# Altium schematic symbol library radxa_cm3i_io_board_v1.4_Library.SchLib: 162 symbols (part 2 of 2)
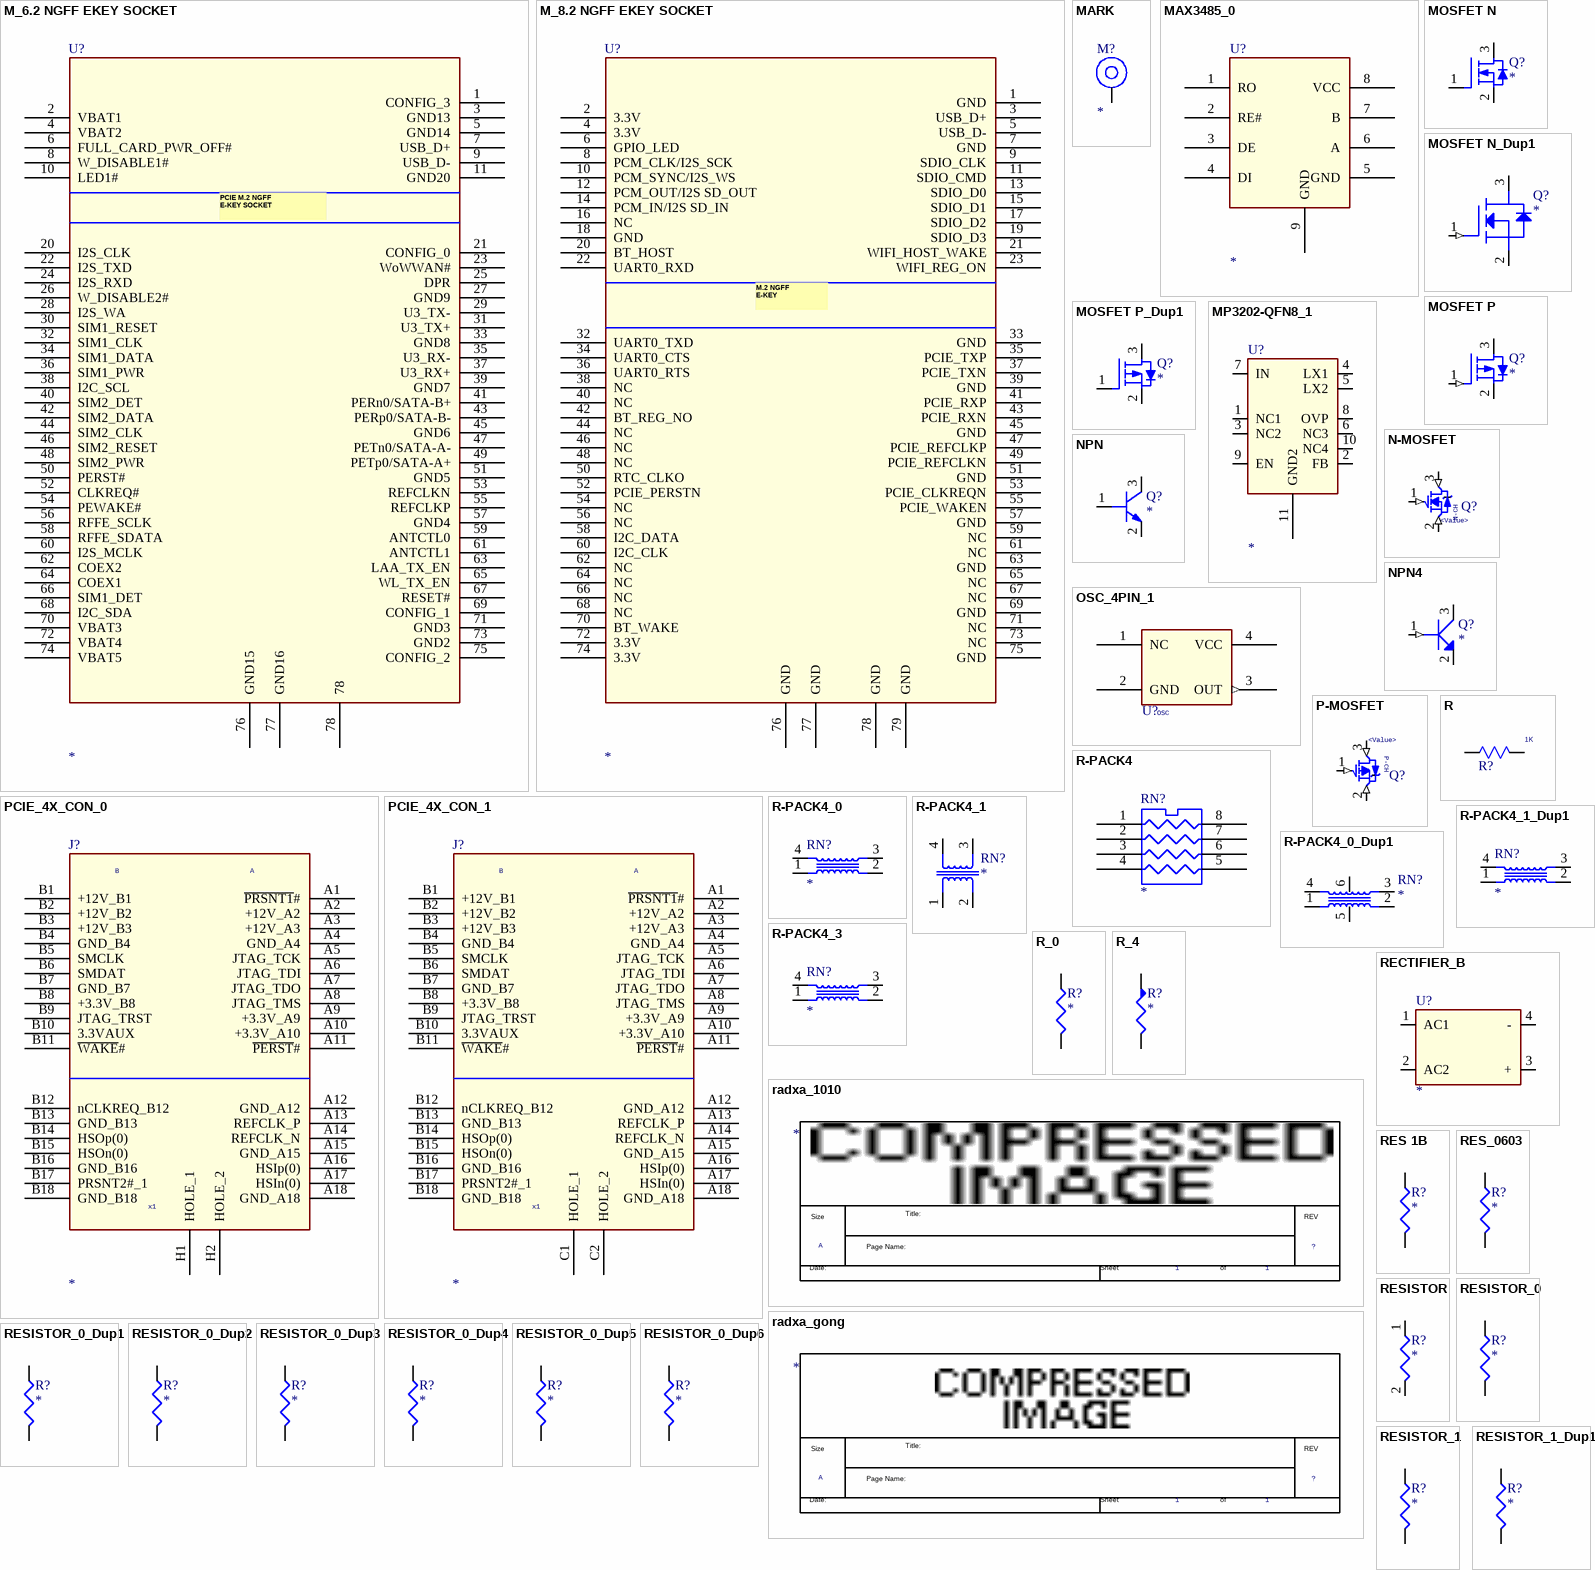
[diagram p19: symbols M_6.2 NGFF EKEY SOCKET to RESISTOR_1_Dup1]

## PCIE_4X_CON_1
designator J?
pins: A1 ~{PRSNT1}#, A2 +12V_A2, A3 +12V_A3, A4 GND_A4, A5 JTAG_TCK, A6 JTAG_TDI, A7 JTAG_TDO, A8 JTAG_TMS, A9 +3.3V_A9, A10 +3.3V_A10, A11 ~{PERST}#, A12 GND_A12, A13 REFCLK_P, A14 REFCLK_N, A15 GND_A15, A16 HSIp(0), A17 HSIn(0), A18 GND_A18, B1 +12V_B1, B2 +12V_B2, B3 +12V_B3, B4 GND_B4, B5 SMCLK, B6 SMDAT, B7 GND_B7, B8 +3.3V_B8, B9 JTAG_TRST, B10 3.3VAUX, B11 ~{WAKE}#, B12 nCLKREQ_B12, B13 GND_B13, B14 HSOp(0), B15 HSOn(0), B16 GND_B16, B17 PRSNT2#_1, B18 GND_B18, C1 HOLE_1, C2 HOLE_2
text: B; A; x1

## R
designator R?, comment 1K
PARTS: 1; LEVEL: STD; PKG_TYPE: 2; PINSWAP: (A,B); OriginalSymbolOrigin: (10,20)
pins: 1, 2

## R-PACK4
designator RN?
pins: 1 R1, 2 R2, 3 R3, 4 R4, 5 R4, 6 R3, 7 R2, 8 R1

## R-PACK4_0
designator RN?
pins: 1 R1, 2 R4, 3 R3, 4 R2

## R-PACK4_0_Dup1
designator RN?
pins: 1 R1, 2 R4, 3 R3, 4 R2, 5, 6

## R-PACK4_1
designator RN?
pins: 1 R1, 2 R4, 3 R3, 4 R2

## R-PACK4_1_Dup1
designator RN?
pins: 1 R1, 2 R4, 3 R3, 4 R2

## R-PACK4_3
designator RN?
pins: 1 R1, 2 R4, 3 R3, 4 R2

## R_0
designator R?
pins: 1, 2

## R_4
designator R?
pins: 1, 2

## radxa_1010
designator *  Page Count: 1  Page Size: A  (graphical)
Page Number: 1; RevCode: ?; Page Create Date: March  8, 1995
text: Title:; Size; REV; Page Name:; Date:; Sheet; of

## radxa_gong
designator *  Page Count: 1  Page Size: A  (graphical)
Page Number: 1; RevCode: ?; Page Create Date: March  8, 1995
text: Size; Title:; REV; Page Name:; Date:; Sheet; of

## RECTIFIER_B
designator U?
pins: 1 AC1, 2 AC2, 3 +, 4 -

## RES 1B
designator R?
pins: 1, 2

## RES_0603
designator R?
footprint R0603
pins: 1, 2

## RESISTOR
designator R?
footprint R0402
pins: 1, 2

## RESISTOR_0
designator R?
footprint R0402
pins: 1, 2

## RESISTOR_0_Dup1
designator R?
footprint R0402
pins: 1, 2

## RESISTOR_0_Dup2
designator R?
footprint R0402
pins: 1, 2

## RESISTOR_0_Dup3
designator R?
footprint R0402
pins: 1, 2

## RESISTOR_0_Dup4
designator R?
footprint R0402
pins: 1, 2

## RESISTOR_0_Dup5
designator R?
footprint R0402
pins: 1, 2

## RESISTOR_0_Dup6
designator R?
pins: 1, 2

## RESISTOR_1
designator R?
pins: 1, 2

## RESISTOR_1_Dup1
designator R?
pins: 1, 2

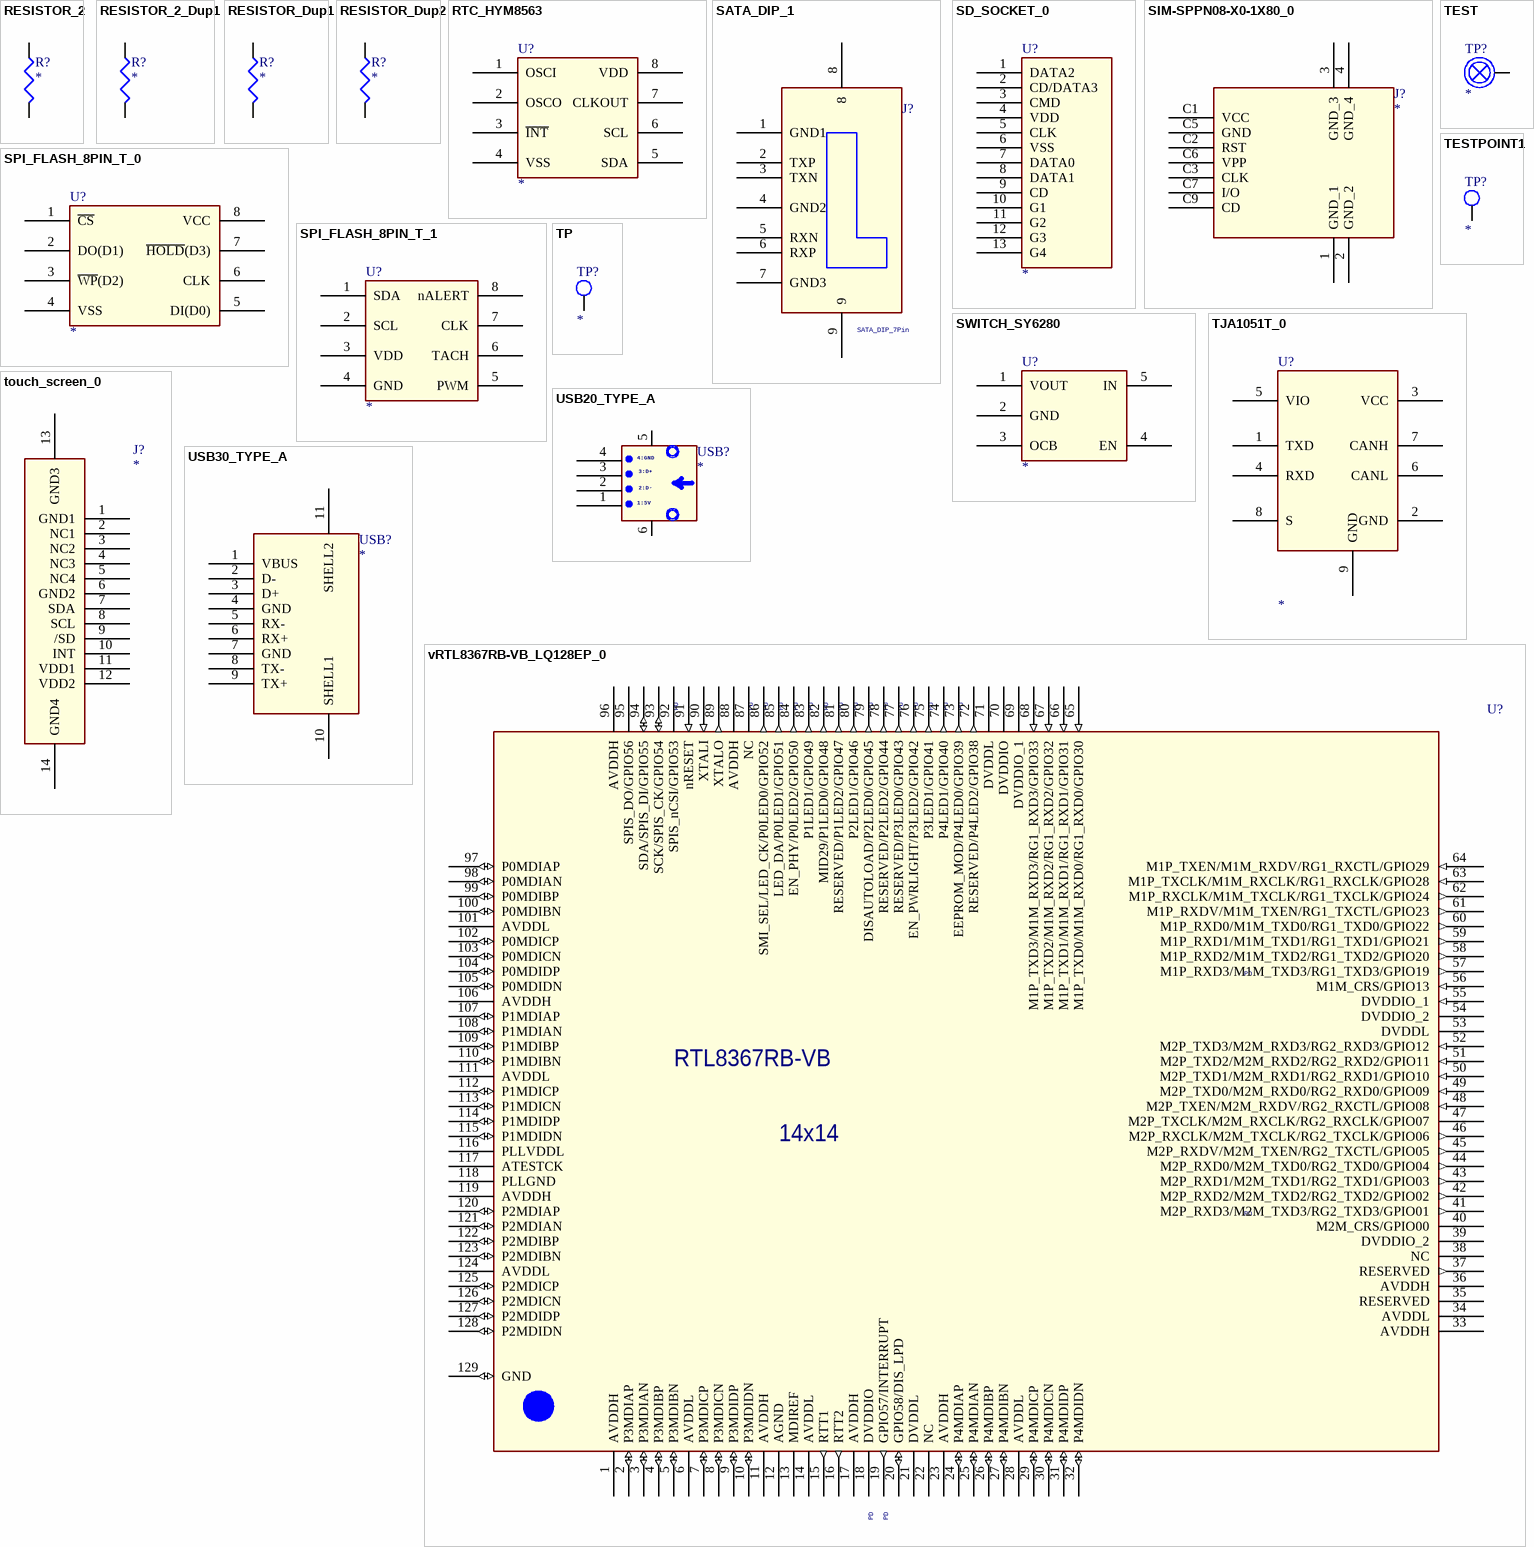
[diagram p17: symbols RESISTOR_2 to vRTL8367RB-VB_LQ128EP_0]

## RESISTOR_2
designator R?
footprint R0402
pins: 1, 2

## RESISTOR_2_Dup1
designator R?
footprint R0402
pins: 1, 2

## RESISTOR_Dup1
designator R?
pins: 1, 2

## RESISTOR_Dup2
designator R?
pins: 1, 2

## RTC_HYM8563
designator U?
pins: 1 OSCI, 2 OSCO, 3 ~{INT}, 4 VSS, 5 SDA, 6 SCL, 7 CLKOUT, 8 VDD

## SATA_DIP_1
designator J?, comment SATA_DIP_7Pin
pins: 1 GND1, 2 TXP, 3 TXN, 4 GND2, 5 RXN, 6 RXP, 7 GND3, 8, 9

## SD_SOCKET_0
designator U?
pins: 1 DATA2, 2 CD/DATA3, 3 CMD, 4 VDD, 5 CLK, 6 VSS, 7 DATA0, 8 DATA1, 9 CD, 10 G1, 11 G2, 12 G3, 13 G4

## SIM-SPPN08-X0-1X80_0
designator J?
footprint SIM-SPPN08-X0-1X80
pins: 1 GND_1, 2 GND_2, 3 GND_3, 4 GND_4, C1 VCC, C2 RST, C3 CLK, C5 GND, C6 VPP, C7 I/O, C9 CD

## SPI_FLASH_8PIN_T_0
designator U?
pins: 1 ~{CS}, 2 DO(D1), 3 ~{WP}(D2), 4 VSS, 5 DI(D0), 6 CLK, 7 ~{HOLD}(D3), 8 VCC

## SPI_FLASH_8PIN_T_1
designator U?
pins: 1 SDA, 2 SCL, 3 VDD, 4 GND, 5 PWM, 6 TACH, 7 CLK, 8 nALERT

## SWITCH_SY6280
designator U?
pins: 1 VOUT, 2 GND, 3 OCB, 4 EN, 5 IN

## TEST
designator TP?
pins: 1

## TESTPOINT1
designator TP?
footprint TEST
pins: 1

## TJA1051T_0
designator U?
pins: 1 TXD, 2 GND, 3 VCC, 4 RXD, 5 VIO, 6 CANL, 7 CANH, 8 S, 9 GND

## touch_screen_0
designator J?
pins: 1 GND1, 2 NC1, 3 NC2, 4 NC3, 5 NC4, 6 GND2, 7 SDA, 8 SCL, 9 /SD, 10 INT, 11 VDD1, 12 VDD2, 13 GND3, 14 GND4

## TP
designator TP?
footprint TEST
pins: 1

## USB20_TYPE_A
designator USB?
footprint USB20
pins: 1, 2, 3, 4, 5, 6
text: 4:GND; 3:D+; 2:D-; 1:5V

## USB30_TYPE_A
designator USB?
footprint USB30
pins: 1 VBUS (power), 2 D-, 3 D+, 4 GND (power), 5 RX-, 6 RX+, 7 GND (power), 8 TX-, 9 TX+, 10 SHELL1, 11 SHELL2

## vRTL8367RB-VB_LQ128EP_0
designator U?, comment RTL8367RB-VB_LQ128EP  (value not drawn)
pins: 1 AVDDH (power), 2 P3MDIAP (io), 3 P3MDIAN (io), 4 P3MDIBP (io), 5 P3MDIBN (io), 6 AVDDL (power), 7 P3MDICP (io), 8 P3MDICN (io), 9 P3MDIDP (io), 10 P3MDIDN (io), 11 AVDDH (power), 12 AGND (power), 13 MDIREF (oe), 14 AVDDL (power), 15 RTT1 (out), 16 RTT2 (out), 17 AVDDH (power), 18 DVDDIO (power), 19 GPIO57/INTERRUPT (out), 20 GPIO58/DIS_LPD (io), 21 DVDDL (power), 22 NC, 23 AVDDH (power), 24 P4MDIAP (io), 25 P4MDIAN (io), 26 P4MDIBP (io), 27 P4MDIBN (io), 28 AVDDL (power), 29 P4MDICP (io), 30 P4MDICN (io), 31 P4MDIDP (io), 32 P4MDIDN (io), 33 AVDDH, 34 AVDDL, 35 RESERVED, 36 AVDDH (power), 37 RESERVED (out), 38 NC, 39 DVDDIO_2 (power), 40 M2M_CRS/GPIO00 (power), 41 M2P_RXD3/M2M_TXD3/RG2_TXD3/GPIO01 (out), 42 M2P_RXD2/M2M_TXD2/RG2_TXD2/GPIO02 (out), 43 M2P_RXD1/M2M_TXD1/RG2_TXD1/GPIO03 (out), 44 M2P_RXD0/M2M_TXD0/RG2_TXD0/GPIO04 (out), 45 M2P_RXDV/M2M_TXEN/RG2_TXCTL/GPIO05 (out), 46 M2P_RXCLK/M2M_TXCLK/RG2_TXCLK/GPIO06 (out), 47 M2P_TXCLK/M2M_RXCLK/RG2_RXCLK/GPIO07, 48 M2P_TXEN/M2M_RXDV/RG2_RXCTL/GPIO08 (in), 49 M2P_TXD0/M2M_RXD0/RG2_RXD0/GPIO09 (in), 50 M2P_TXD1/M2M_RXD1/RG2_RXD1/GPIO10 (in), 51 M2P_TXD2/M2M_RXD2/RG2_RXD2/GPIO11 (in), 52 M2P_TXD3/M2M_RXD3/RG2_RXD3/GPIO12 (in), 53 DVDDL (power), 54 DVDDIO_2 (power), 55 DVDDIO_1 (in), 56 M1M_CRS/GPIO13 (in), 57 M1P_RXD3/M1M_TXD3/RG1_TXD3/GPIO19 (out), 58 M1P_RXD2/M1M_TXD2/RG1_TXD2/GPIO20 (out), 59 M1P_RXD1/M1M_TXD1/RG1_TXD1/GPIO21 (out), 60 M1P_RXD0/M1M_TXD0/RG1_TXD0/GPIO22 (out), 61 M1P_RXDV/M1M_TXEN/RG1_TXCTL/GPIO23 (out), 62 M1P_RXCLK/M1M_TXCLK/RG1_TXCLK/GPIO24 (out), 63 M1P_TXCLK/M1M_RXCLK/RG1_RXCLK/GPIO28 (in), 64 M1P_TXEN/M1M_RXDV/RG1_RXCTL/GPIO29 (in), 65 M1P_TXD0/M1M_RXD0/RG1_RXD0/GPIO30 (in), 66 M1P_TXD1/M1M_RXD1/RG1_RXD1/GPIO31 (in), 67 M1P_TXD2/M1M_RXD2/RG1_RXD2/GPIO32 (in), 68 M1P_TXD3/M1M_RXD3/RG1_RXD3/GPIO33 (in), 69 DVDDIO_1 (power), 70 DVDDIO (power), 71 DVDDL (power), 72 RESERVED/P4LED2/GPIO38 (out), 73 EEPROM_MOD/P4LED0/GPIO39 (out), 74 P4LED1/GPIO40 (out), 75 P3LED1/GPIO41 (out), 76 EN_PWRLIGHT/P3LED2/GPIO42 (out), 77 RESERVED/P3LED0/GPIO43 (out), 78 RESERVED/P2LED2/GPIO44 (out), 79 DISAUTOLOAD/P2LED0/GPIO45 (out), 80 P2LED1/GPIO46 (out), 81 RESERVED/P1LED2/GPIO47 (out), 82 MID29/P1LED0/GPIO48 (out), 83 P1LED1/GPIO49 (out), 84 EN_PHY/P0LED2/GPIO50 (out), 85 LED_DA/P0LED1/GPIO51 (out), 86 SMI_SEL/LED_CK/P0LED0/GPIO52 (out), 87 NC, 88 AVDDH (power), 89 XTALO (out), 90 XTALI (in), 91 nRESET (in), 92 SPIS_nCSI/GPIO53, 93 SCK/SPIS_CK/GPIO54 (io), 94 SDA/SPIS_DI/GPIO55 (io), 95 SPIS_DO/GPIO56, 96 AVDDH (power), 97 P0MDIAP (io), 98 P0MDIAN (io), 99 P0MDIBP (io), 100 P0MDIBN (io), 101 AVDDL (power), 102 P0MDICP (io), 103 P0MDICN (io), 104 P0MDIDP (io), 105 P0MDIDN (io), 106 AVDDH (power), 107 P1MDIAP (io), 108 P1MDIAN (io), 109 P1MDIBP (io), 110 P1MDIBN (io), 111 AVDDL (power), 112 P1MDICP (io), 113 P1MDICN (io), 114 P1MDIDP (io), 115 P1MDIDN (io), 116 PLLVDDL (power), 117 ATESTCK (power), 118 PLLGND (power), 119 AVDDH (power), 120 P2MDIAP (io), 121 P2MDIAN (io), 122 P2MDIBP (io), 123 P2MDIBN (io), 124 AVDDL (power), 125 P2MDICP (io), 126 P2MDICN (io), 127 P2MDIDP (io), 128 P2MDIDN (io), 129 GND (io)
text: PU; PD; RTL8367RB-VB; 14x14

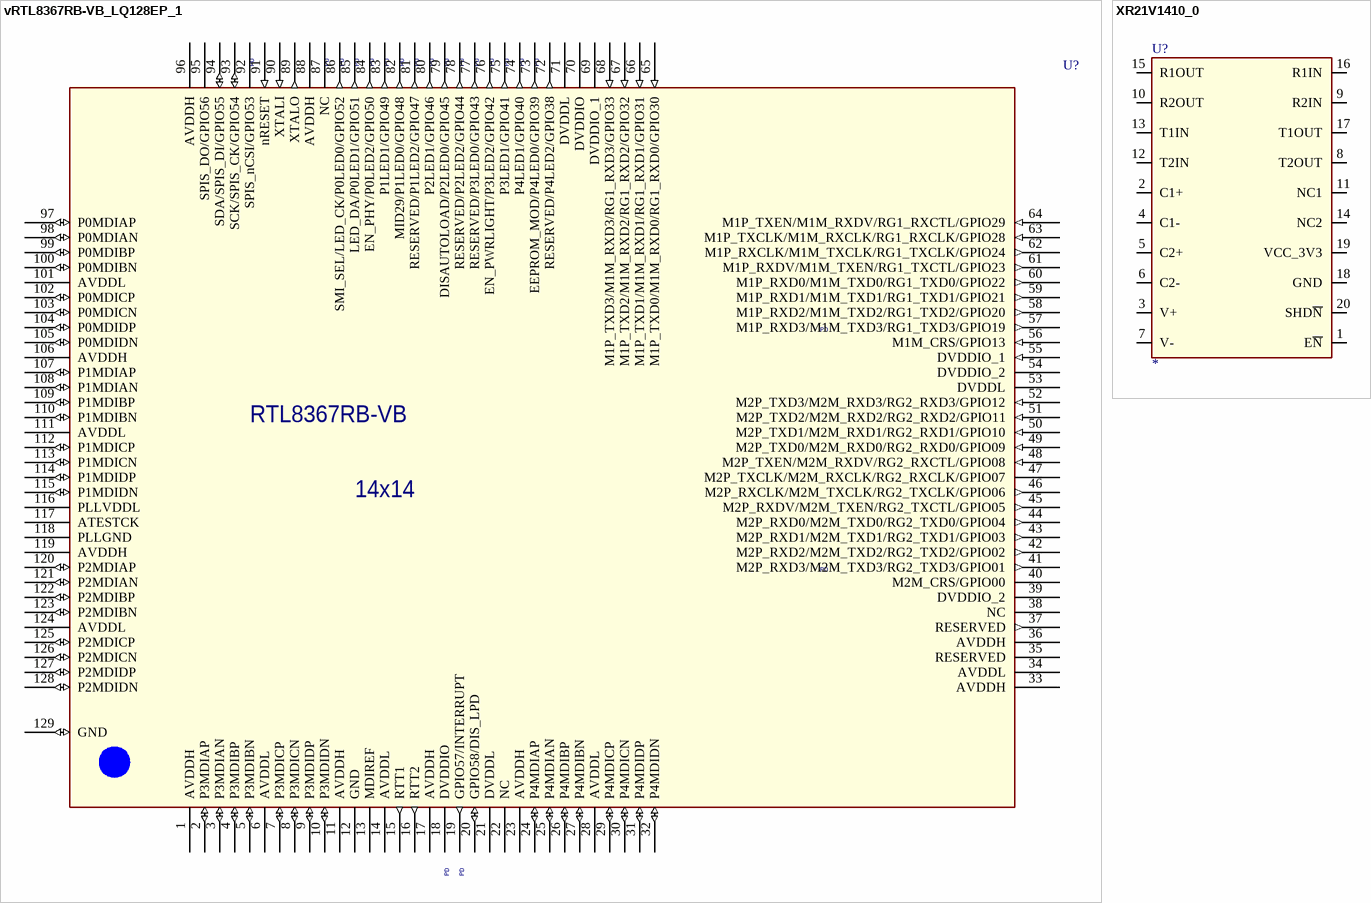
[diagram p18: symbols vRTL8367RB-VB_LQ128EP_1 to XR21V1410_0]

## vRTL8367RB-VB_LQ128EP_1
designator U?, comment RTL8367RB-VB_LQ128EP  (value not drawn)
pins: 1 AVDDH (power), 2 P3MDIAP (io), 3 P3MDIAN (io), 4 P3MDIBP (io), 5 P3MDIBN (io), 6 AVDDL (power), 7 P3MDICP (io), 8 P3MDICN (io), 9 P3MDIDP (io), 10 P3MDIDN (io), 11 AVDDH (power), 12 GND (power), 13 MDIREF (oe), 14 AVDDL (power), 15 RTT1 (out), 16 RTT2 (out), 17 AVDDH (power), 18 DVDDIO (power), 19 GPIO57/INTERRUPT (out), 20 GPIO58/DIS_LPD (io), 21 DVDDL (power), 22 NC, 23 AVDDH (power), 24 P4MDIAP (io), 25 P4MDIAN (io), 26 P4MDIBP (io), 27 P4MDIBN (io), 28 AVDDL (power), 29 P4MDICP (io), 30 P4MDICN (io), 31 P4MDIDP (io), 32 P4MDIDN (io), 33 AVDDH, 34 AVDDL, 35 RESERVED, 36 AVDDH (power), 37 RESERVED (out), 38 NC, 39 DVDDIO_2 (power), 40 M2M_CRS/GPIO00 (power), 41 M2P_RXD3/M2M_TXD3/RG2_TXD3/GPIO01 (out), 42 M2P_RXD2/M2M_TXD2/RG2_TXD2/GPIO02 (out), 43 M2P_RXD1/M2M_TXD1/RG2_TXD1/GPIO03 (out), 44 M2P_RXD0/M2M_TXD0/RG2_TXD0/GPIO04 (out), 45 M2P_RXDV/M2M_TXEN/RG2_TXCTL/GPIO05 (out), 46 M2P_RXCLK/M2M_TXCLK/RG2_TXCLK/GPIO06 (out), 47 M2P_TXCLK/M2M_RXCLK/RG2_RXCLK/GPIO07, 48 M2P_TXEN/M2M_RXDV/RG2_RXCTL/GPIO08 (in), 49 M2P_TXD0/M2M_RXD0/RG2_RXD0/GPIO09 (in), 50 M2P_TXD1/M2M_RXD1/RG2_RXD1/GPIO10 (in), 51 M2P_TXD2/M2M_RXD2/RG2_RXD2/GPIO11 (in), 52 M2P_TXD3/M2M_RXD3/RG2_RXD3/GPIO12 (in), 53 DVDDL (power), 54 DVDDIO_2 (power), 55 DVDDIO_1 (in), 56 M1M_CRS/GPIO13 (in), 57 M1P_RXD3/M1M_TXD3/RG1_TXD3/GPIO19 (out), 58 M1P_RXD2/M1M_TXD2/RG1_TXD2/GPIO20 (out), 59 M1P_RXD1/M1M_TXD1/RG1_TXD1/GPIO21 (out), 60 M1P_RXD0/M1M_TXD0/RG1_TXD0/GPIO22 (out), 61 M1P_RXDV/M1M_TXEN/RG1_TXCTL/GPIO23 (out), 62 M1P_RXCLK/M1M_TXCLK/RG1_TXCLK/GPIO24 (out), 63 M1P_TXCLK/M1M_RXCLK/RG1_RXCLK/GPIO28 (in), 64 M1P_TXEN/M1M_RXDV/RG1_RXCTL/GPIO29 (in), 65 M1P_TXD0/M1M_RXD0/RG1_RXD0/GPIO30 (in), 66 M1P_TXD1/M1M_RXD1/RG1_RXD1/GPIO31 (in), 67 M1P_TXD2/M1M_RXD2/RG1_RXD2/GPIO32 (in), 68 M1P_TXD3/M1M_RXD3/RG1_RXD3/GPIO33 (in), 69 DVDDIO_1 (power), 70 DVDDIO (power), 71 DVDDL (power), 72 RESERVED/P4LED2/GPIO38 (out), 73 EEPROM_MOD/P4LED0/GPIO39 (out), 74 P4LED1/GPIO40 (out), 75 P3LED1/GPIO41 (out), 76 EN_PWRLIGHT/P3LED2/GPIO42 (out), 77 RESERVED/P3LED0/GPIO43 (out), 78 RESERVED/P2LED2/GPIO44 (out), 79 DISAUTOLOAD/P2LED0/GPIO45 (out), 80 P2LED1/GPIO46 (out), 81 RESERVED/P1LED2/GPIO47 (out), 82 MID29/P1LED0/GPIO48 (out), 83 P1LED1/GPIO49 (out), 84 EN_PHY/P0LED2/GPIO50 (out), 85 LED_DA/P0LED1/GPIO51 (out), 86 SMI_SEL/LED_CK/P0LED0/GPIO52 (out), 87 NC, 88 AVDDH (power), 89 XTALO (out), 90 XTALI (in), 91 nRESET (in), 92 SPIS_nCSI/GPIO53, 93 SCK/SPIS_CK/GPIO54 (io), 94 SDA/SPIS_DI/GPIO55 (io), 95 SPIS_DO/GPIO56, 96 AVDDH (power), 97 P0MDIAP (io), 98 P0MDIAN (io), 99 P0MDIBP (io), 100 P0MDIBN (io), 101 AVDDL (power), 102 P0MDICP (io), 103 P0MDICN (io), 104 P0MDIDP (io), 105 P0MDIDN (io), 106 AVDDH (power), 107 P1MDIAP (io), 108 P1MDIAN (io), 109 P1MDIBP (io), 110 P1MDIBN (io), 111 AVDDL (power), 112 P1MDICP (io), 113 P1MDICN (io), 114 P1MDIDP (io), 115 P1MDIDN (io), 116 PLLVDDL (power), 117 ATESTCK (power), 118 PLLGND (power), 119 AVDDH (power), 120 P2MDIAP (io), 121 P2MDIAN (io), 122 P2MDIBP (io), 123 P2MDIBN (io), 124 AVDDL (power), 125 P2MDICP (io), 126 P2MDICN (io), 127 P2MDIDP (io), 128 P2MDIDN (io), 129 GND (io)
text: PU; PD; RTL8367RB-VB; 14x14

## XR21V1410_0
designator U?
pins: 1 E~{N}, 2 C1+, 3 V+, 4 C1-, 5 C2+, 6 C2-, 7 V-, 8 T2OUT, 9 R2IN, 10 R2OUT, 11 NC1, 12 T2IN, 13 T1IN, 14 NC2, 15 R1OUT, 16 R1IN, 17 T1OUT, 18 GND, 19 VCC_3V3, 20 SHD~{N}